# Altium integrated library EEUFR1E221.IntLib: 1 symbol
Pins are listed as number, name and electrical type; pins without a type are passive.

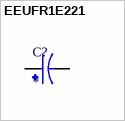
[diagram p0: symbol EEUFR1E221]

## EEUFR1E221
designator C?
CAP ALUM 220UF 20% 25V RADIAL TH; MP: EEUFR1E221; MF: Panasonic; Package: RADIAL-2 Panasonic; Price: None; Availability: In Stock; Value: *; Check_prices: https://www.snapeda.com/parts/EEUFR1E221/Panasonic/view-part/5789018/?ref=eda; SnapEDA_Link: https://www.snapeda.com/parts/EEUFR1E221/Panasonic/view-part/5789018/?ref=snap
footprint CAPPRD350W60D800H1150
pins: N, P